# EAGLE library part TPS63070RNMR (library TPS63070RNMR)
Check availability <https://pricing.snapeda.com/parts/TPS63070RNMR/Texas%20Instruments/view-part?ref=eda>
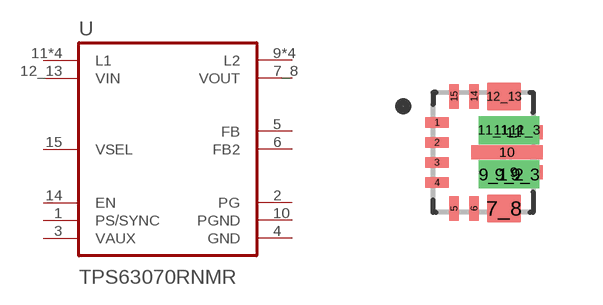
[diagram p0: symbol with the pads of VREG_TPS63070RNMR; footprint VREG_TPS63070RNMR]

Designator prefix U

## TPS63070RNMR (AVAILABILITY: In Stock; DESCRIPTION: Wide input voltage (2V-16V) buck-boost converter; LCSC_PART: C2876599; MF: Texas Instruments; MP: TPS63070RNMR; PACKAGE: VQFN-HR-15 Texas Instruments; PRICE: None; PURCHASE-URL: https://pricing.snapeda.com/search/part/TPS63070RNMR/?ref=eda)  [VREG_TPS63070RNMR]
1  PS/SYNC  in
2  PG  out
3  VAUX  out
4  GND  pwr
5  FB  in
6  FB2  out
7_8  VOUT  out
9  L2
9_1  L2
9_2  L2
9_3  L2
10  PGND  pwr
11  L1
11_1  L1
11_2  L1
11_3  L1
12_13  VIN  in
14  EN  in
15  VSEL  in

## Footprint VREG_TPS63070RNMR (pad centres in mm)
smd 0.6 x 0.25: 1 -1.15,0.75; 2 -1.15,0.25; 3 -1.15,-0.25; 4 -1.15,-0.75
smd 0.25 x 0.6: 5 -0.725,-1.4; 6 -0.225,-1.4; 14 -0.225,1.4; 15 -0.725,1.4
smd 0.85 x 0.7: 7_8 0.525,-1.4; 12_13 0.525,1.4
smd 1.45 x 0.35: 9 0.775,-0.5; 11 0.775,0.5
drill 0.2 pad 0.4 square: 9_1 0.25,-0.55; 9_2 0.65,-0.55; 9_3 1.05,-0.55; 11_1 0.25,0.55; 11_2 0.65,0.55; 11_3 1.05,0.55
smd 1.8 x 0.35: 10 0.6,0